# EAGLE library part USBLC6 (library anykey)
ST USB ESD protection
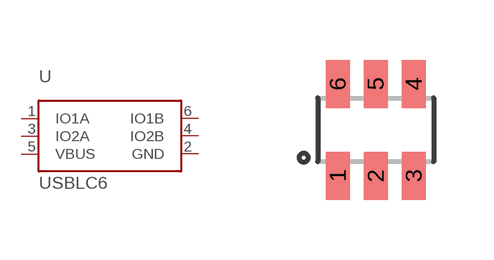
[diagram p51: symbol with the pads of SOT-23-6; footprint SOT-23-6]

Designator prefix -

## USBLC6  [SOT-23-6]
1  IO1A
2  GND  pwr
3  IO2A
4  IO2B
5  VBUS  pwr
6  IO1B

## Footprint SOT-23-6 (pad centres in mm)
SOT23-6 package
smd 0.6 x 1.2: 1 -0.95,-1.15; 2 0,-1.15; 3 0.95,-1.15; 4 0.95,1.15; 5 0,1.15; 6 -0.95,1.15